# EAGLE library part LSM6DS3TR-C (library pimoroni-ics)
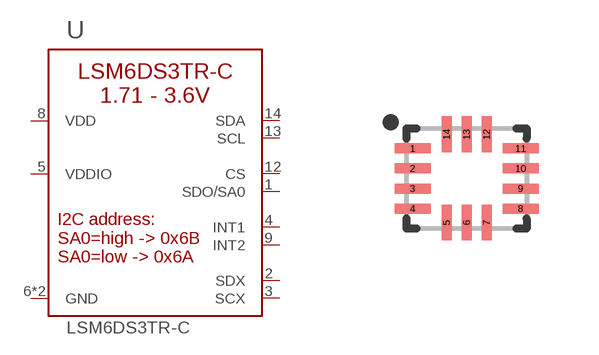
[diagram p123: symbol with the pads of LGA-14-2.5X3MM; footprint LGA-14-2.5X3MM]

Designator prefix U

## LSM6DS3TR-C  [LGA-14-2.5X3MM]
1  SDO/SA0
2  SDX
3  SCX
4  INT1
5  VDDIO
6  GND
7  GND
8  VDD
9  INT2
12  CS
13  SCL
14  SDA

## Footprint LGA-14-2.5X3MM (pad centres in mm)
smd 0.9 x 0.25: 1 -1.35,0.75; 2 -1.35,0.25; 3 -1.35,-0.25; 4 -1.35,-0.75; 8 1.35,-0.75; 9 1.35,-0.25; 10 1.35,0.25; 11 1.35,0.75
smd 0.25 x 0.9: 5 -0.5,-1.1; 6 0,-1.1; 7 0.5,-1.1; 12 0.5,1.1; 13 0,1.1; 14 -0.5,1.1